# Altium schematic symbol library GPS_Tracker.SCHLIB: 18 symbols
Pins are listed as number, name and electrical type; pins without a type are passive.

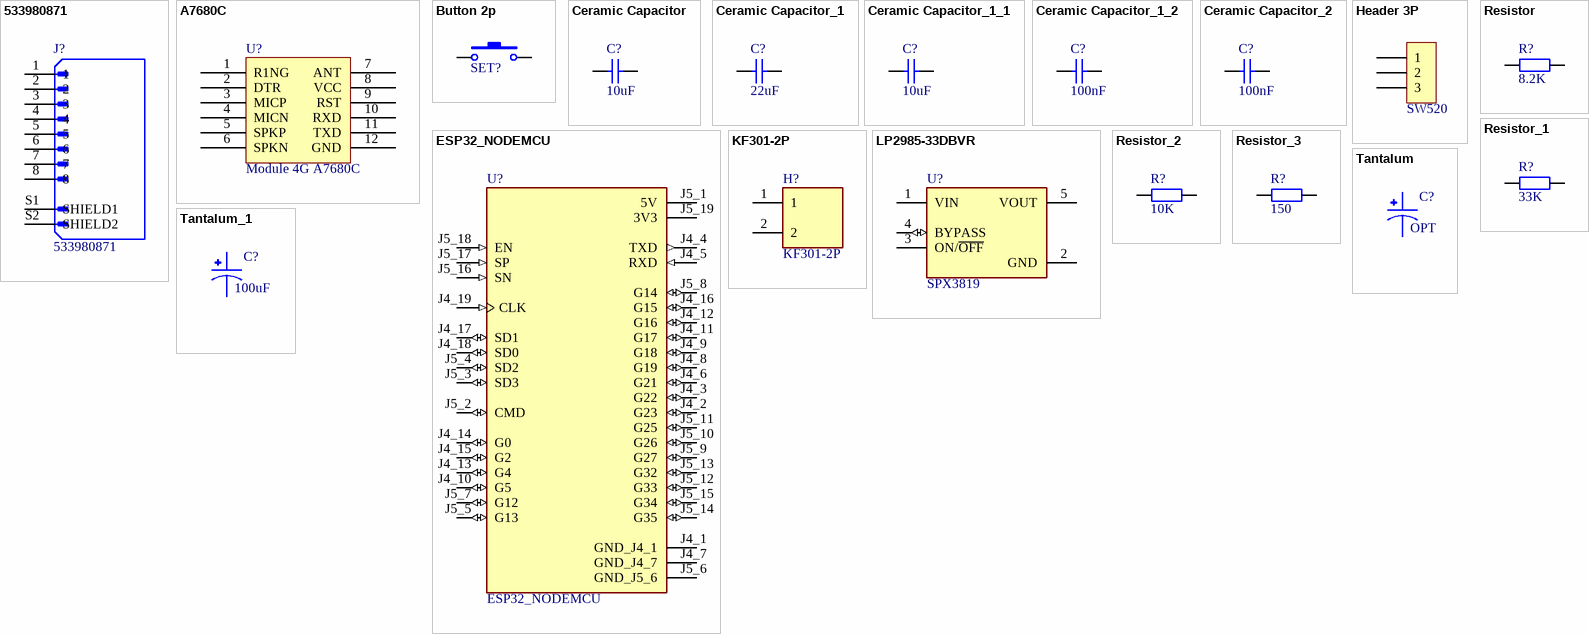
[diagram p0: symbols 533980871 to Tantalum_1]

## 533980871
designator J?
MX 1.25mm 8 pin;Conn; Rect; Header; 1.25 mm Pitch; PCB; 8 Cir; Ver; SMT; PicoBlade; LF | Molex Incorporated 53398-0871; Price: None; MP: 533980871; Availability: Unavailable; Value: *; Package: None
footprint MOLEX_533980871
pins: 1, 2, 3, 4, 5, 6, 7, 8, S1 SHIELD1, S2 SHIELD2

## A7680C
designator U?, comment Module 4G A7680C
footprint A768X-EC800M-FP
pins: 1 R1NG, 2 DTR, 3 MICP, 4 MICN, 5 SPKP, 6 SPKN, 7 ANT, 8 VCC (power), 9 RST, 10 RXD, 11 TXD, 12 GND (power)

## Button 2p
designator SET?  (value not drawn)
Nut Nhan 2 Chan SMD 3x6x2.5; Ma_Hang: MH001036; Ten: Nút Nhấn 2 Chân 3x6x2.5MM SMD
footprint Button 2p 3x6x2.5 (Switch SMD type)
pins: 1, 2

## Ceramic Capacitor
designator C?, comment 10uF
Chung_Loai: Dán; Don_Vi: Con; So_Chan: 2; Ten_Linh_Kien: Tụ 0805 104-100nF 10% 50V; Ma_Hang: MH004551; Kieu_Chan: *
footprint 0603_Cap (0603 SMD Ceramic Capacitor)
footprint 0805_Cap (0805 SMD Ceramic Capacitor)
footprint 1206_CAP (3216 Tantalum Capacitor)
pins: 1, 2

## Ceramic Capacitor_1
designator C?, comment 22uF
Chung_Loai: Dán; Don_Vi: Con; So_Chan: 2; Ten_Linh_Kien: Tụ 0805 104-100nF 10% 50V; Ma_Hang: MH004551; Kieu_Chan: *
footprint 0603_Cap (0603 SMD Ceramic Capacitor)
footprint 0805_Cap (0805 SMD Ceramic Capacitor)
footprint 1206_CAP (3216 Tantalum Capacitor)
pins: 1, 2

## Ceramic Capacitor_1_1
designator C?, comment 10uF
Chung_Loai: Dán; Don_Vi: Con; So_Chan: 2; Ten_Linh_Kien: Tụ 0805 104-100nF 10% 50V; Ma_Hang: MH004551; Kieu_Chan: *
footprint 0603_Cap (0603 SMD Ceramic Capacitor)
footprint 0805_Cap (0805 SMD Ceramic Capacitor)
footprint 1206_CAP (3216 Tantalum Capacitor)
pins: 1, 2

## Ceramic Capacitor_1_2
designator C?, comment 100nF
Chung_Loai: Dán; Don_Vi: Con; So_Chan: 2; Ten_Linh_Kien: Tụ 0805 104-100nF 10% 50V; Ma_Hang: MH004551; Kieu_Chan: *
footprint 0603_Cap (0603 SMD Ceramic Capacitor)
footprint 0805_Cap (0805 SMD Ceramic Capacitor)
footprint 1206_CAP (3216 Tantalum Capacitor)
pins: 1, 2

## Ceramic Capacitor_2
designator C?, comment 100nF
Chung_Loai: Dán; Don_Vi: Con; So_Chan: 2; Ten_Linh_Kien: Tụ 0805 104-100nF 10% 50V; Ma_Hang: MH004551; Kieu_Chan: *
footprint 0603_Cap (0603 SMD Ceramic Capacitor)
footprint 0805_Cap (0805 SMD Ceramic Capacitor)
footprint 1206_CAP (3216 Tantalum Capacitor)
pins: 1, 2

## ESP32_NODEMCU
designator U?
NodeMCU is an open source loT platform. ESP32 is a series of low cost, low powersystem-on-chip (SoC) microcontrollers with integrated Wi-Fi & dual-mode Bluetooth.; MF: Espressif Systems; MP: ESP32 NODEMCU; SnapEDA_Link: https://www.snapeda.com/parts/ESP32%20NODEMCU/Espressif+Systems/view-part/?ref=snap; Package: Package; Value: *; Check_prices: https://www.snapeda.com/parts/ESP32%20NODEMCU/Espressif+Systems/view-part/?ref=eda
footprint MODULE_ESP32_NODEMCU
pins: J4_1 GND_J4_1 (power), J4_2 G23 (io), J4_3 G22 (io), J4_4 TXD (out), J4_5 RXD (in), J4_6 G21 (io), J4_7 GND_J4_7 (power), J4_8 G19 (io), J4_9 G18 (io), J4_10 G5 (io), J4_11 G17 (io), J4_12 G16 (io), J4_13 G4 (io), J4_14 G0 (io), J4_15 G2 (io), J4_16 G15 (io), J4_17 SD1 (io), J4_18 SD0 (io), J4_19 CLK (in), J5_1 5V (power), J5_2 CMD (io), J5_3 SD3 (io), J5_4 SD2 (io), J5_5 G13 (io), J5_6 GND_J5_6 (power), J5_7 G12 (io), J5_8 G14 (io), J5_9 G27 (io), J5_10 G26 (io), J5_11 G25 (io), J5_12 G33 (io), J5_13 G32 (io), J5_14 G35 (io), J5_15 G34 (io), J5_16 SN (in), J5_17 SP (in), J5_18 EN (in), J5_19 3V3 (power)

## Header 3P
designator U?, comment SW520
THT; Ten_Linh_Kien: Header 3P XH2.54-3P Đực Cong; Don_Vi: Con; Ma_Hang: MH001302; Chung_Loai: Cắm
footprint XH2.54M-3
footprint CON 3 EDG5.08-3P
footprint JP 1X3
footprint KF301_PIN3
pins: 1, 2, 3

## KF301-2P
designator H?
2 Pin Terminal Block 5mm Pitch; Price: None; Value: *; MP: KF301-2P; Package: None; Availability: Unavailable
footprint HANDSON_KF301-2P
pins: 1, 2

## LP2985-33DBVR
designator U?, comment SPX3819
150-mA, 16-V, low-dropout voltage regulator with enable 5-SOT-23 -40 to 125; MP: LP2985-33DBVR; Package: None; Value: *; Price: None; Availability: Unavailable
footprint SOT95P280X145-5N
pins: 1 VIN, 2 GND (power), 3 ON/~{OFF}, 4 BYPASS (io), 5 VOUT

## Resistor
designator R?, comment 8.2K
Chung_Loai: Dán; Don_Vi: Con; So_Chan: 2; Ten_Linh_Kien: Trở 0805 1% 1k; Ma_Hang: MH005468; Kieu_Chan: *
footprint 0805_Res (0805 SMD Resistor)
footprint 0603_Res (0603 SMD Resistor)
pins: 1, 2

## Resistor_1
designator R?, comment 33K
Chung_Loai: Dán; Don_Vi: Con; So_Chan: 2; Ten_Linh_Kien: Trở 0805 1% 1k; Ma_Hang: MH005468; Kieu_Chan: *
footprint 0805_Res (0805 SMD Resistor)
footprint 0603_Res (0603 SMD Resistor)
pins: 1, 2

## Resistor_2
designator R?, comment 10K
Chung_Loai: Dán; Don_Vi: Con; So_Chan: 2; Ten_Linh_Kien: Trở 0805 1% 1k; Ma_Hang: MH005468; Kieu_Chan: *
footprint 0805_Res (0805 SMD Resistor)
footprint 0603_Res (0603 SMD Resistor)
pins: 1, 2

## Resistor_3
designator R?, comment 150
Chung_Loai: Dán; Don_Vi: Con; So_Chan: 2; Ten_Linh_Kien: Trở 0805 1% 1k; Ma_Hang: MH005468; Kieu_Chan: *
footprint 0805_Res (0805 SMD Resistor)
footprint 0603_Res (0603 SMD Resistor)
pins: 1, 2

## Tantalum
designator C?, comment OPT
Molded Tantalum Capacitors
footprint 2312_Tantalum
footprint 2917 _Tantalum
footprint 1206_Tantalum
pins: 1, 2

## Tantalum_1
designator C?, comment 100uF
Molded Tantalum Capacitors
footprint 2312_Tantalum
footprint 2917 _Tantalum
footprint 1206_Tantalum
pins: 1, 2